# EAGLE library part DIP-BLACK-MALE-HEADER-VERT(2X36P-2.54) (library Seeed-OPL-Connector)
320020145
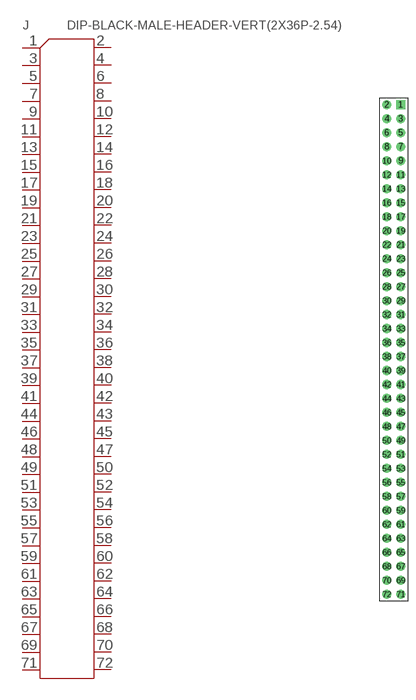
[diagram p99: symbol with the pads of H2X36-2.54; footprint H2X36-2.54]

Designator prefix J

## DIP-BLACK-MALE-HEADER-VERT(2X36P-2.54) (MPN: P125-1136A0BR116A2; VALUE: 2x36p-2.54)  [H2X36-2.54]
1  P$1
2  P$2
3  P$3
4  P$4
5  P$5
6  P$6
7  P$7
8  P$8
9  P$9
10  P$10
11  P$11
12  P$12
13  P$13
14  P$14
15  P$15
16  P$16
17  P$17
18  P$18
19  P$19
20  P$20
21  P$21
22  P$22
23  P$23
24  P$24
25  P$25
26  P$26
27  P$27
28  P$28
29  P$29
30  P$30
31  P$31
32  P$32
33  P$33
34  P$34
35  P$35
36  P$36
37  P$37
38  P$38
39  P$39
40  P$40
41  P$41
42  P$42
43  P$43
44  P$44
45  P$45
46  P$46
47  P$47
48  P$48
49  P$49
50  P$50
51  P$51
52  P$52
53  P$53
54  P$54
55  P$55
56  P$56
57  P$57
58  P$58
59  P$59
60  P$60
61  P$61
62  P$62
63  P$63
64  P$64
65  P$65
66  P$66
67  P$67
68  P$68
69  P$69
70  P$70
71  P$71
72  P$72

## Footprint H2X36-2.54 (pad centres in mm)
drill 0.889 pad 1.651 square: 1 1.27,44.45
drill 0.889 pad 1.651: 2 -1.27,44.45; 3 1.27,41.91; 4 -1.27,41.91; 5 1.27,39.37; 6 -1.27,39.37; 7 1.27,36.83; 8 -1.27,36.83; 9 1.27,34.29; 10 -1.27,34.29; 11 1.27,31.75; 12 -1.27,31.75; 13 1.27,29.21; 14 -1.27,29.21; 15 1.27,26.67; 16 -1.27,26.67; 17 1.27,24.13; 18 -1.27,24.13; 19 1.27,21.59; 20 -1.27,21.59; 21 1.27,19.05; 22 -1.27,19.05; 23 1.27,16.51; 24 -1.27,16.51; 25 1.27,13.97; 26 -1.27,13.97; 27 1.27,11.43; 28 -1.27,11.43; 29 1.27,8.89; 30 -1.27,8.89; 31 1.27,6.35; 32 -1.27,6.35; 33 1.27,3.81; 34 -1.27,3.81; 35 1.27,1.27; 36 -1.27,1.27; 37 1.27,-1.27; 38 -1.27,-1.27; 39 1.27,-3.81; 40 -1.27,-3.81; 41 1.27,-6.35; 42 -1.27,-6.35; 43 1.27,-8.89; 44 -1.27,-8.89; 45 1.27,-11.43; 46 -1.27,-11.43; 47 1.27,-13.97; 48 -1.27,-13.97; 49 1.27,-16.51; 50 -1.27,-16.51; 51 1.27,-19.05; 52 -1.27,-19.05; 53 1.27,-21.59; 54 -1.27,-21.59; 55 1.27,-24.13; 56 -1.27,-24.13; 57 1.27,-26.67; 58 -1.27,-26.67; 59 1.27,-29.21; 60 -1.27,-29.21; 61 1.27,-31.75; 62 -1.27,-31.75; 63 1.27,-34.29; 64 -1.27,-34.29; 65 1.27,-36.83; 66 -1.27,-36.83; 67 1.27,-39.37; 68 -1.27,-39.37; 69 1.27,-41.91; 70 -1.27,-41.91; 71 1.27,-44.45; 72 -1.27,-44.45